# Altium schematic symbol library PGA204BU.Schlib: 1 symbol
Pins are listed as number, name and electrical type; pins without a type are passive.

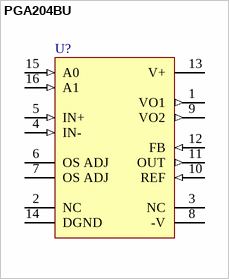
[diagram p0: symbol PGA204BU]

## PGA204BU
designator U?
Programmable Gain Instrumentation Amplifier; Note: Pins 2 and 3 are No internal Connection (NC) pins.; Code - JEDEC: MS-013-AA; Code - IPC: SO16W; Published: 8-Jun-2000; Revision: 17-Jul-2002: Re-released for DXP Platform.; Datasheet: Latest Revision: Oct-1993; Package Reference: 211F; Publisher: Altium Limited
footprint SO-16
pins: 1 VO1 (out), 2 NC, 3 NC, 4 IN- (in), 5 IN+ (in), 6 OS ADJ, 7 OS ADJ, 8 -V (power), 9 VO2 (out), 10 REF (in), 11 OUT (out), 12 FB (in), 13 V+ (power), 14 DGND (power), 15 A0 (in), 16 A1 (in)